# EAGLE library part XS1-U8A-FB96 (library nonolith)
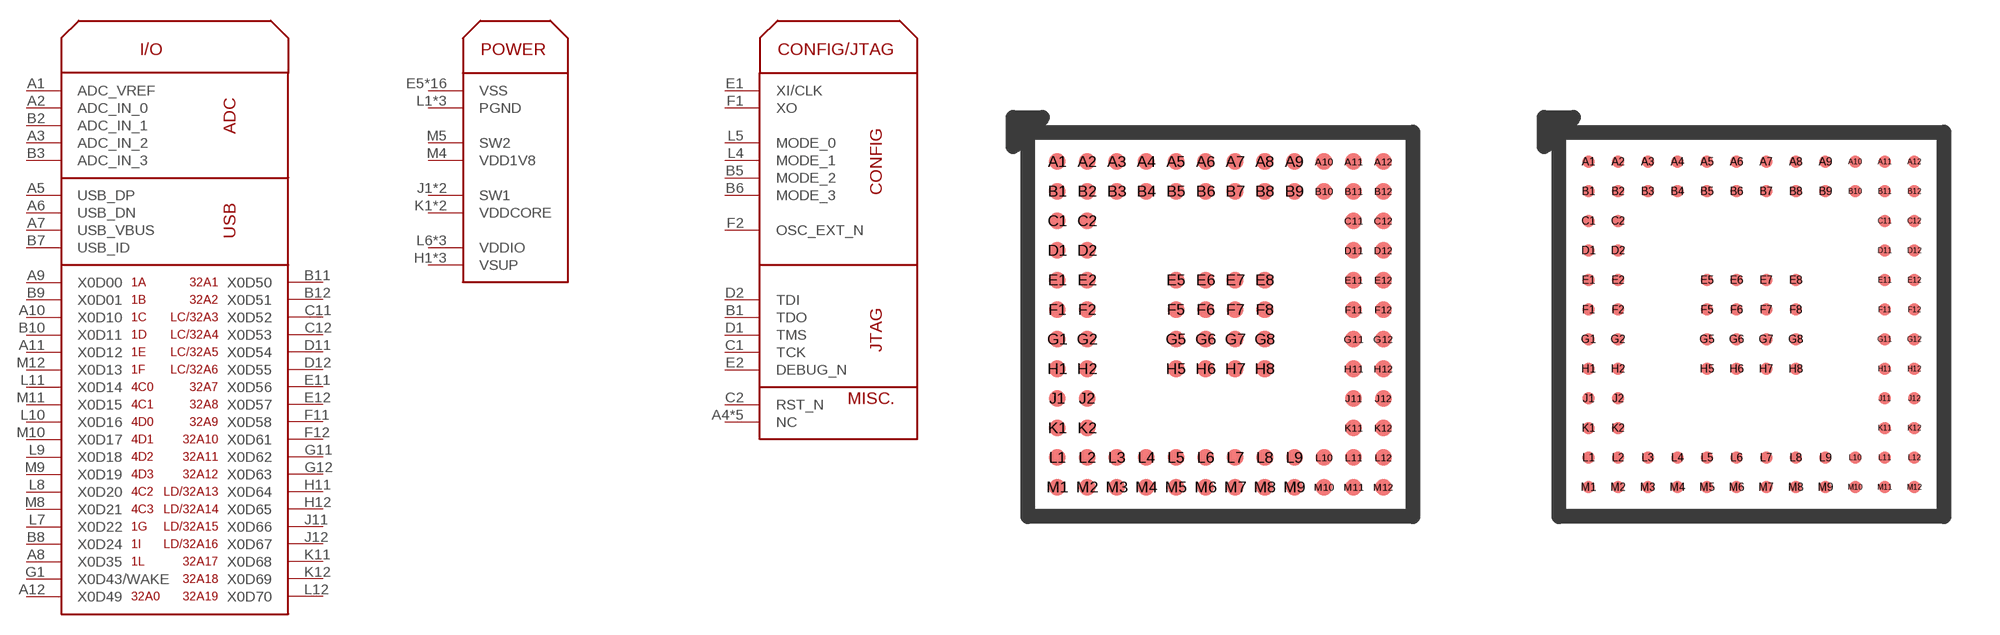
[diagram p41: symbol with the pads of BGA96; footprints BGA96, BGA96_0.33MM]

Designator prefix -; gates G$1=XS1-U8A_I/O G$2=XS1-U8A-FB96_POWER G$3=XS1-U8A-FB96_CONFIG/JTAG

## XS1-U8A-FB96DEFAULT  [BGA96]
A1  G$1:ADC_VREF
A2  G$1:ADC_IN_0
A3  G$1:ADC_IN_2
A4  G$3:NC
A5  G$1:USB_DP
A6  G$1:USB_DN
A7  G$1:USB_VBUS
A8  G$1:X0D35
A9  G$1:X0D00
A10  G$1:X0D10
A11  G$1:X0D12
A12  G$1:X0D49
B1  G$3:TDO
B2  G$1:ADC_IN_1
B3  G$1:ADC_IN_3
B4  G$3:NC
B5  G$3:MODE_2
B6  G$3:MODE_3
B7  G$1:USB_ID
B8  G$1:X0D24
B9  G$1:X0D01
B10  G$1:X0D11
B11  G$1:X0D50
B12  G$1:X0D51
C1  G$3:TCK
C2  G$3:RST_N
C11  G$1:X0D52
C12  G$1:X0D53
D1  G$3:TMS
D2  G$3:TDI
D11  G$1:X0D54
D12  G$1:X0D55
E1  G$3:XI/CLK
E2  G$3:DEBUG_N
E5  G$2:VSS
E6  G$2:VSS
E7  G$2:VSS
E8  G$2:VSS
E11  G$1:X0D56
E12  G$1:X0D57
F1  G$3:XO
F2  G$3:OSC_EXT_N
F5  G$2:VSS
F6  G$2:VSS
F7  G$2:VSS
F8  G$2:VSS
F11  G$1:X0D58
F12  G$1:X0D61
G1  G$1:X0D43/WAKE
G2  G$3:NC
G5  G$2:VSS
G6  G$2:VSS
G7  G$2:VSS
G8  G$2:VSS
G11  G$1:X0D62
G12  G$1:X0D63
H1  G$2:VSUP
H2  G$3:NC
H5  G$2:VSS
H6  G$2:VSS
H7  G$2:VSS
H8  G$2:VSS
H11  G$1:X0D64
H12  G$1:X0D65
J1  G$2:SW1
J2  G$2:SW1
J11  G$1:X0D66
J12  G$1:X0D67
K1  G$2:VDDCORE
K2  G$2:VDDCORE
K11  G$1:X0D68
K12  G$1:X0D69
L1  G$2:PGND
L2  G$2:PGND
L3  G$3:NC
L4  G$3:MODE_1
L5  G$3:MODE_0
L6  G$2:VDDIO
L7  G$1:X0D22
L8  G$1:X0D20
L9  G$1:X0D18
L10  G$1:X0D16
L11  G$1:X0D14
L12  G$1:X0D70
M1  G$2:VSUP
M2  G$2:VSUP
M3  G$2:PGND
M4  G$2:VDD1V8
M5  G$2:SW2
M6  G$2:VDDIO
M7  G$2:VDDIO
M8  G$1:X0D21
M9  G$1:X0D19
M10  G$1:X0D17
M11  G$1:X0D15
M12  G$1:X0D13

## XS1-U8A-FB960.33MM  [BGA96_0.33MM]
Pads as for BGA96

## Footprint BGA96 (pad centres in mm)
smd 0.45 x 0.45: A1 -3.2,3.2; A2 -2.4,3.2; A3 -1.6,3.2; A4 -0.8,3.2; A5 0,3.2; A6 0.8,3.2; A7 1.6,3.2; A8 2.4,3.2; A9 3.2,3.2; A10 4,3.2; A11 4.8,3.2; A12 5.6,3.2; B1 -3.2,2.4; B2 -2.4,2.4; B3 -1.6,2.4; B4 -0.8,2.4; B5 0,2.4; B6 0.8,2.4; B7 1.6,2.4; B8 2.4,2.4; B9 3.2,2.4; B10 4,2.4; B11 4.8,2.4; B12 5.6,2.4; C1 -3.2,1.6; C2 -2.4,1.6; C11 4.8,1.6; C12 5.6,1.6; D1 -3.2,0.8; D2 -2.4,0.8; D11 4.8,0.8; D12 5.6,0.8; E1 -3.2,0; E2 -2.4,0; E5 0,0; E6 0.8,0; E7 1.6,0; E8 2.4,0; E11 4.8,0; E12 5.6,0; F1 -3.2,-0.8; F2 -2.4,-0.8; F5 0,-0.8; F6 0.8,-0.8; F7 1.6,-0.8; F8 2.4,-0.8; F11 4.8,-0.8; F12 5.6,-0.8; G1 -3.2,-1.6; G2 -2.4,-1.6; G5 0,-1.6; G6 0.8,-1.6; G7 1.6,-1.6; G8 2.4,-1.6; G11 4.8,-1.6; G12 5.6,-1.6; H1 -3.2,-2.4; H2 -2.4,-2.4; H5 0,-2.4; H6 0.8,-2.4; H7 1.6,-2.4; H8 2.4,-2.4; H11 4.8,-2.4; H12 5.6,-2.4; J1 -3.2,-3.2; J2 -2.4,-3.2; J11 4.8,-3.2; J12 5.6,-3.2; K1 -3.2,-4; K2 -2.4,-4; K11 4.8,-4; K12 5.6,-4; L1 -3.2,-4.8; L2 -2.4,-4.8; L3 -1.6,-4.8; L4 -0.8,-4.8; L5 0,-4.8; L6 0.8,-4.8; L7 1.6,-4.8; L8 2.4,-4.8; L9 3.2,-4.8; L10 4,-4.8; L11 4.8,-4.8; L12 5.6,-4.8; M1 -3.2,-5.6; M2 -2.4,-5.6; M3 -1.6,-5.6; M4 -0.8,-5.6; M5 0,-5.6; M6 0.8,-5.6; M7 1.6,-5.6; M8 2.4,-5.6; M9 3.2,-5.6; M10 4,-5.6; M11 4.8,-5.6; M12 5.6,-5.6

## Footprint BGA96_0.33MM (pad centres in mm)
smd 0.33 x 0.33: A1 -4.4,4.4; A2 -3.6,4.4; A3 -2.8,4.4; A4 -2,4.4; A5 -1.2,4.4; A6 -0.4,4.4; A7 0.4,4.4; A8 1.2,4.4; A9 2,4.4; A10 2.8,4.4; A11 3.6,4.4; A12 4.4,4.4; B1 -4.4,3.6; B2 -3.6,3.6; B3 -2.8,3.6; B4 -2,3.6; B5 -1.2,3.6; B6 -0.4,3.6; B7 0.4,3.6; B8 1.2,3.6; B9 2,3.6; B10 2.8,3.6; B11 3.6,3.6; B12 4.4,3.6; C1 -4.4,2.8; C2 -3.6,2.8; C11 3.6,2.8; C12 4.4,2.8; D1 -4.4,2; D2 -3.6,2; D11 3.6,2; D12 4.4,2; E1 -4.4,1.2; E2 -3.6,1.2; E5 -1.2,1.2; E6 -0.4,1.2; E7 0.4,1.2; E8 1.2,1.2; E11 3.6,1.2; E12 4.4,1.2; F1 -4.4,0.4; F2 -3.6,0.4; F5 -1.2,0.4; F6 -0.4,0.4; F7 0.4,0.4; F8 1.2,0.4; F11 3.6,0.4; F12 4.4,0.4; G1 -4.4,-0.4; G2 -3.6,-0.4; G5 -1.2,-0.4; G6 -0.4,-0.4; G7 0.4,-0.4; G8 1.2,-0.4; G11 3.6,-0.4; G12 4.4,-0.4; H1 -4.4,-1.2; H2 -3.6,-1.2; H5 -1.2,-1.2; H6 -0.4,-1.2; H7 0.4,-1.2; H8 1.2,-1.2; H11 3.6,-1.2; H12 4.4,-1.2; J1 -4.4,-2; J2 -3.6,-2; J11 3.6,-2; J12 4.4,-2; K1 -4.4,-2.8; K2 -3.6,-2.8; K11 3.6,-2.8; K12 4.4,-2.8; L1 -4.4,-3.6; L2 -3.6,-3.6; L3 -2.8,-3.6; L4 -2,-3.6; L5 -1.2,-3.6; L6 -0.4,-3.6; L7 0.4,-3.6; L8 1.2,-3.6; L9 2,-3.6; L10 2.8,-3.6; L11 3.6,-3.6; L12 4.4,-3.6; M1 -4.4,-4.4; M2 -3.6,-4.4; M3 -2.8,-4.4; M4 -2,-4.4; M5 -1.2,-4.4; M6 -0.4,-4.4; M7 0.4,-4.4; M8 1.2,-4.4; M9 2,-4.4; M10 2.8,-4.4; M11 3.6,-4.4; M12 4.4,-4.4